# EAGLE library part PINHEAD_PINHD-2X3 (library LowPowerLab)
PIN HEADER
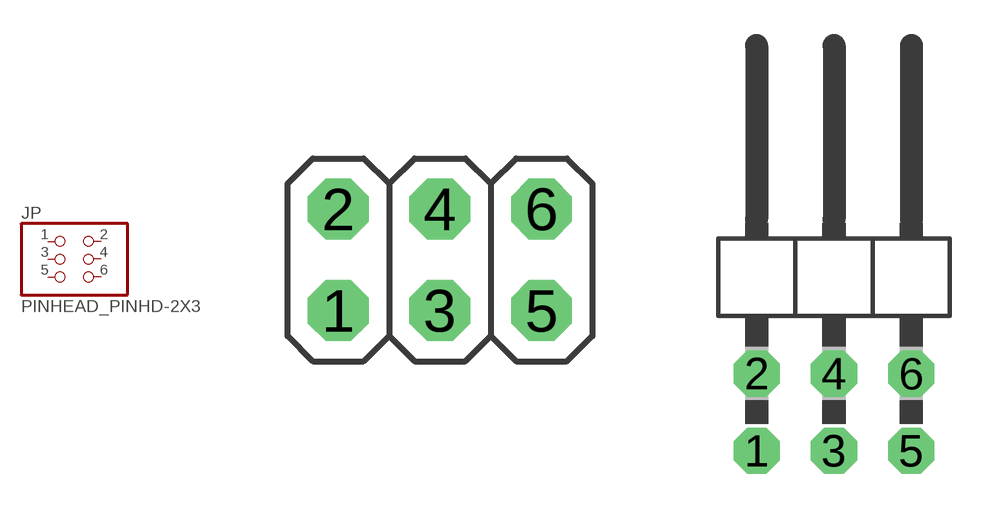
[diagram p2: symbol with the pads of PINHEAD_2X03; footprints PINHEAD_2X03, PINHEAD_2X03/90]

Designator prefix JP

## PINHEAD_PINHD-2X3  [PINHEAD_2X03]
1  1  pas
2  2  pas
3  3  pas
4  4  pas
5  5  pas
6  6  pas

## PINHEAD_PINHD-2X3/90  [PINHEAD_2X03/90]
Pads as for PINHEAD_2X03

## Footprint PINHEAD_2X03 (pad centres in mm)
PIN HEADER
drill 1.016 octagon: 1 -2.54,-1.27; 2 -2.54,1.27; 3 0,-1.27; 4 0,1.27; 5 2.54,-1.27; 6 2.54,1.27

## Footprint PINHEAD_2X03/90 (pad centres in mm)
PIN HEADER
drill 1.016 octagon: 1 -2.54,-6.35; 2 -2.54,-3.81; 3 0,-6.35; 4 0,-3.81; 5 2.54,-6.35; 6 2.54,-3.81